# Altium schematic symbol library TF_LAN_1CH.SchLib: 1 symbol
Pins are listed as number, name and electrical type; pins without a type are passive.

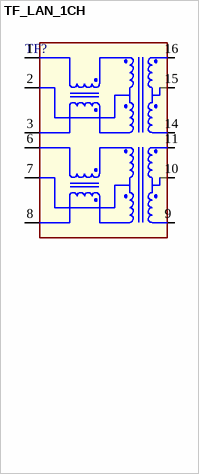
[diagram p0: symbol TF_LAN_1CH]

## TF_LAN_1CH
designator TF?
WURTH WE-LAN TRANSFORMER 7490100011
pins: 1 RD+, 2 RCT, 3 RD-, 6 TD+, 7 TCT, 8 TD-, 9 TX-, 10 TXCT, 11 TX+, 14 RX-, 15 RXCT, 16 RX+